# Altium footprint library Manu3.PcbLib: 69 footprints (part 3 of 5)
Each footprint in its own frame and in the unit in brackets; x right, y up, seen from the top. Pads: shape width x height; smd on the part's side, far side on the other; paste and mask are expansions set on the pad; w line width, h text height; cw(c..) or ccw(c..) is an arc to the next point about the centre after c.
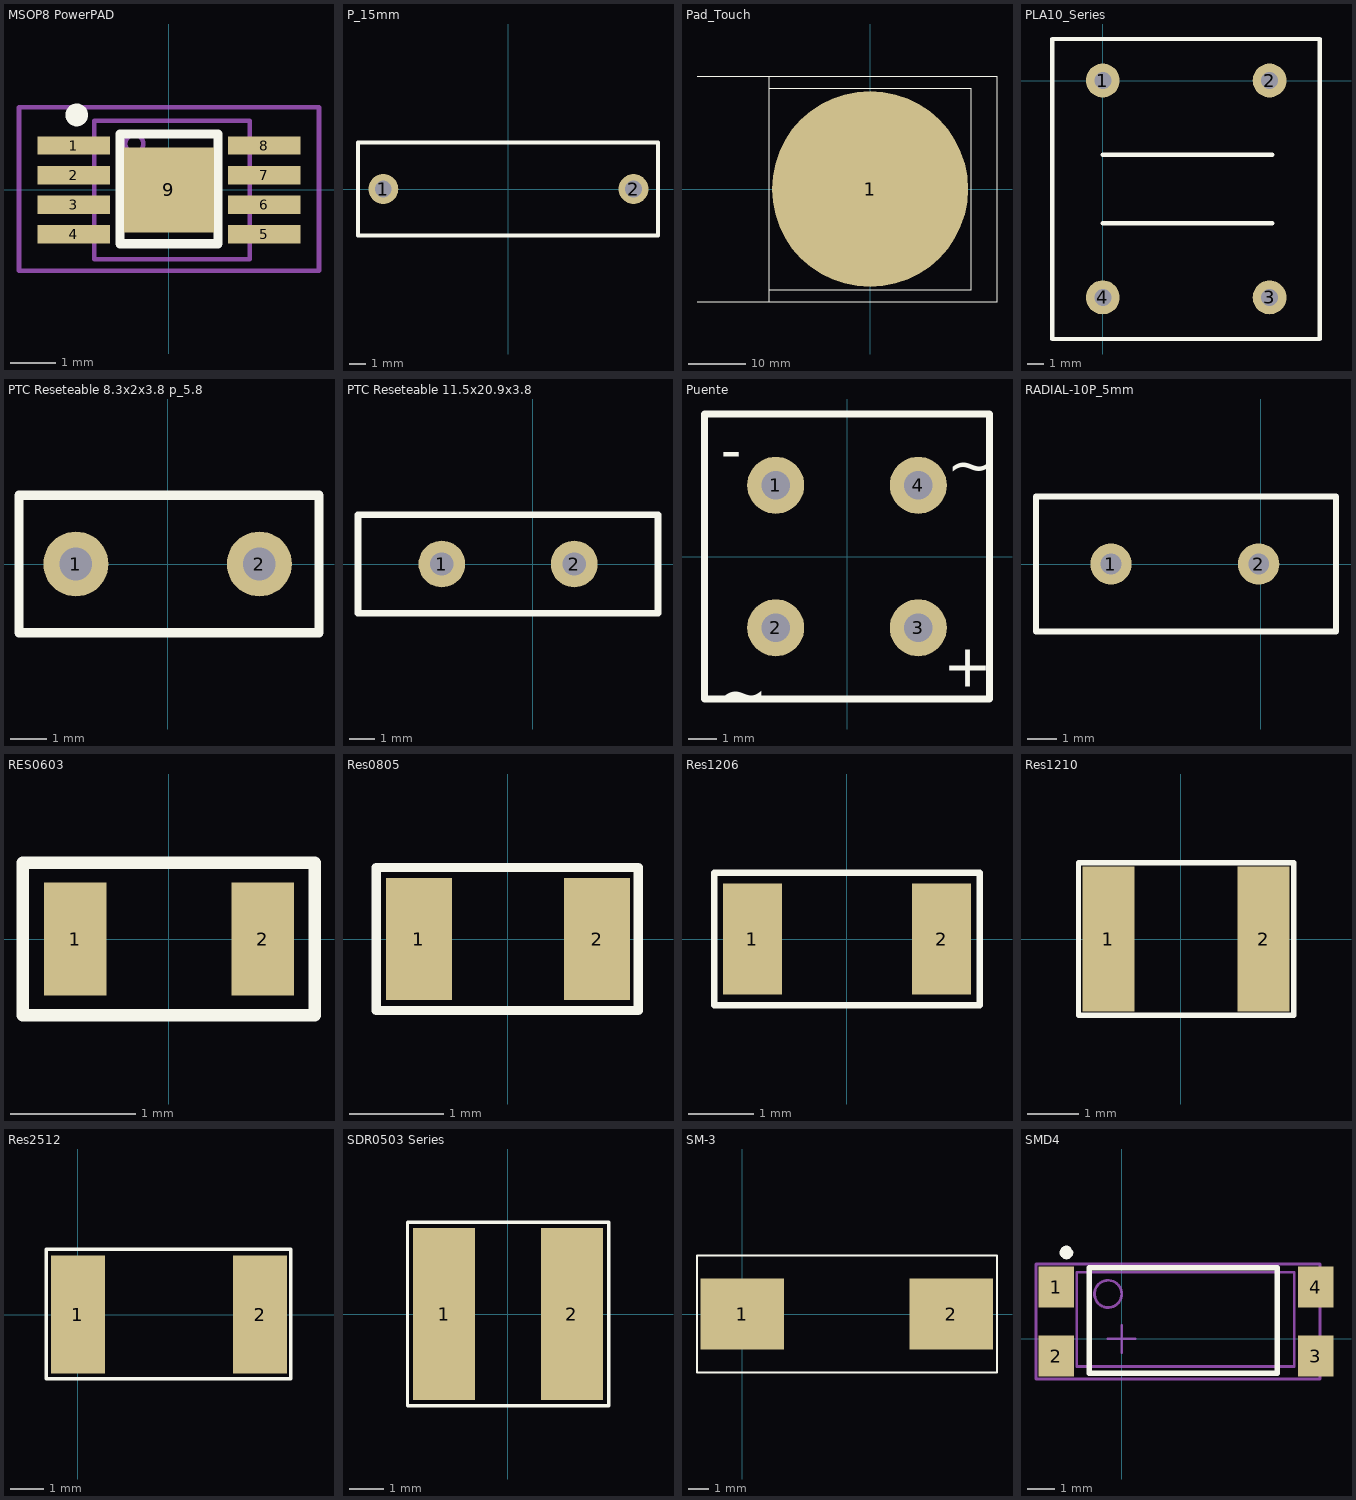
[diagram p2: the footprints below, top view; thin cyan lines are the x and y axes]

## MSOP8 PowerPAD [mm] "DGN Package 3mmx5mm"
height 1.1
pads (9):
  rect 1.6x0.4 smd: 1(-2.1,0.975) 2(-2.1,0.325) 3(-2.1,-0.325) 4(-2.1,-0.975) 5(2.1,-0.975) 6(2.1,-0.325) 7(2.1,0.325) 8(2.1,0.975)
  rect 1.98x1.88 smd: 9(0,0)
Top Overlay:
  circle w0.25: c-2.032,1.651 r0.125
  lines w0.2: -1.078,-1.184 -1.078,1.229 1.081,1.229 1.081,-1.184 -1.078,-1.184
Mechanical 13:
  circle w0.1: c-0.762,1.016 r0.2
  lines w0.1: -1.65,-1.524 -1.65,1.52 1.778,1.52 1.778,-1.524 -1.65,-1.524
Mechanical 15:
  lines w0.1: -0.5,0 0.5,0 ; 0,-0.5 0,0.5 ; -3.302,-1.778 -3.302,1.82 3.302,1.82 3.302,-1.778 -3.302,-1.778
3D body: height 1.75, standoff 0.03, extent -1.651,-1.524 1.778,1.524

## P_15mm [mm] "Condensador Poliester; 2 Leads"
height 18
pads (2):
  round 1.8 hole 1: 1(-7.5,0) 2(7.5,0)
Top Overlay:
  lines w0.254: -9.017,-2.794 -9.017,2.794 8.966,2.794 8.966,-2.794 -9.017,-2.794
3D body: height 11, standoff -2.6, extent -9,-2.46 9,2.54

## Pad_Touch [mm] "Pad Touch D=33mm 34x34 mm"
height 2.54
pads (1):
  round 34 smd: 1(0,0)
Top Overlay:
  lines w0.15: -30,-19.5 22,-19.5 22,19.5 -30,19.5 ; -17.5,-19.5 -17.5,-17.5 ; -17.5,19.5 -17.5,17.5 ; -17.5,-17.5 -17.5,17.5 ; -17.5,-17.5 17.5,-17.5 17.5,17.5 -17.5,17.5

## PLA10_Series [mil] "AC Line Filters Common Mode Choke Coil"
height 688.98
pads (4):
  round 80 hole 40: 1(0,0) 2(393.7,0) 3(393.7,-511.81) 4(0,-511.81)
Top Overlay:
  lines w10: 0,-336.81 400,-336.81 ; 0,-175 400,-175 ; -119,-610 -119,98 511.81,98 511.81,-610 -119,-610
3D body: height 641.54, standoff -129.92, extent -100.28,-590 490.28,71.09

## PTC Reseteable 8.3x2x3.8 p_5.8 [mm] "PTC Reseteable LVR005NK"
height 12.9
pads (2):
  round 1.8 hole 0.9: 1(-2.54,0) 2(2.54,0)
Top Overlay:
  lines w0.254: -4.115,-1.905 4.191,-1.905 4.191,1.905 -4.115,1.905 -4.115,-1.905
3D body: height 11.85, standoff -10.97, extent -4.85,-1.55 4.85,1.5

## PTC Reseteable 11.5x20.9x3.8 [mm] "PTC Reseteable CF:2213624"
height 20.9
pads (2):
  round 1.8 hole 0.9: 1(-3.5,0) 2(1.6,0)
Top Overlay:
  lines w0.254: -6.731,-1.905 -6.731,1.905 4.826,1.905 4.826,-1.905 -6.731,-1.905

## Puente [mil] "Puente rectificador  1,5A, 800V"
height 216.54
pads (4):
  round 80 hole 40: 1(-100,100) 2(-100,-100) 3(100,-100) 4(100,100)
Top Overlay:
  lines w10: -200,-200 200,-200 200,200 -200,200 -200,-200
  text "~" at 140,100 h60
  text "+" at 135,-183 h60
  text "~" at -180,-221 h60
  text "-" at -177,121 h60

## RADIAL-10P_5mm [mm] "2 Leads"
height 10
pads (2):
  round 1.4 hole 0.7: 1(-5.08,0) 2(-0.08,0)
Top Overlay:
  lines w0.2: -7.62,-2.286 -7.62,2.286 2.54,2.286 2.54,-2.286 -7.62,-2.286
3D body: height 12.5, standoff -5, extent -8.045,-2.485 2.946,2.515

## RES0603 [mm] "Tamaño 0603 para pasar por el horno"
height 0.45
pads (2):
  rect 0.5x0.9 smd: 1(-0.75,0) 2(0.75,0)
Top Overlay:
  lines w0.1: -1.172,-0.61 1.165,-0.61 1.165,0.61 -1.172,0.61 -1.172,-0.61
3D body: height 0.56, standoff 0, extent -0.824,-0.4 0.876,0.4

## Res0805 [mm] "Tamaño 0805"
height 0.45
pads (2):
  rect 0.7x1.3 smd: 1(-0.95,0) 2(0.95,0)
Top Overlay:
  lines w0.1: -1.405,-0.762 1.389,-0.762 1.389,0.762 -1.405,0.762 -1.405,-0.762
3D body: height 0.76, standoff 0, extent -1.124,-0.7 1.176,0.65

## Res1206 [mm] "Tamaño 1206"
height 2.54
pads (2):
  rect 0.9x1.7 smd: 1(-1.45,0) 2(1.45,0)
Top Overlay:
  lines w0.1: -2.032,-1.016 -2.032,1.016 2.032,1.016 2.032,-1.016 -2.032,-1.016
3D body: height 0.85, standoff 0, extent -1.675,-0.865 1.675,0.865

## Res1210 [mm] "Tamaño 1210"
height 2.54
pads (2):
  rect 1x2.8 smd: 1(-1.4,0) 2(1.6,0)
Top Overlay:
  lines w0.1: -1.981,-1.473 -1.981,1.473 2.184,1.473 2.184,-1.473 -1.981,-1.473
3D body: height 0.6, standoff 0, extent -1.473,-1.25 1.727,1.25

## Res2512 [mm] "Tamaño 2512"
height 2.54
pads (2):
  rect 1.6x3.5 smd: 1(0,0) 2(5.4,0)
Top Overlay:
  lines w0.1: -0.937,-1.907 6.313,-1.907 6.313,1.943 -0.937,1.943 -0.937,-1.907
3D body: height 1.6, standoff 0, extent -0.482,-1.5 5.868,1.5

## SDR0503 Series [mm] "Bobina 5mm x 4.8mm x 3mm"
height 3
pads (2):
  rect 1.8x5 smd: 1(-1.85,0) 2(1.85,0)
Top Overlay:
  lines w0.1: -2.914,-2.667 2.928,-2.667 2.928,2.667 -2.914,2.667 -2.914,-2.667
3D body: height 1, standoff 0, extent -2.914,-2.667 2.928,2.667

## SM-3 [mm] "Resistencia Serie SM 3W"
height 5
pads (2):
  rect 4x3.4 smd: 1(0,0) 2(10,0)
Top Overlay:
  lines w0.1: -2.159,-2.794 12.192,-2.794 12.192,2.794 -2.159,2.794 -2.159,-2.794
3D body: height 1.1, standoff 0, extent -2.159,-2.794 12.192,2.794

## SMD4 [mm] "SOIC, 4-Leads, Body 4.9x3.9mm, Pitch 1.27mm, IPC Medium Density"
height 1.75
pads (4):
  rect 1.3x1.5 smd: 1(-2.4,1.905) 2(-2.4,-0.635) 3(7.13,-0.635) 4(7.13,1.905)
Top Overlay:
  lines w0.2: -1.194,-1.27 -1.194,2.616 5.715,2.616 5.715,-1.27 -1.194,-1.27
  lines w0.25: -1.972,3.286 ccw(c-2.03,3.175) -1.905,3.175
Mechanical 13:
  circle w0.1: c-0.5,1.651 r0.5
  lines w0.1: -1.651,-1.016 -1.651,2.45 6.35,2.45 6.35,-1.016 -1.651,-1.016
Mechanical 15:
  lines w0.1: -0.5,0 0.5,0 ; 0,-0.5 0,0.5 ; -3.15,-1.473 -3.15,2.75 7.29,2.75 7.29,-1.473 -3.15,-1.473
3D body: height 4.45, standoff 0.55, extent -2.729,-1.832 7.301,3